# Altium footprint library PcbLib1.PcbLib: 24 footprints (part 1 of 2)
Each footprint in its own frame and in the unit in brackets; x right, y up, seen from the top. Pads: shape width x height; smd on the part's side, far side on the other; paste and mask are expansions set on the pad; w line width, h text height; cw(c..) or ccw(c..) is an arc to the next point about the centre after c.
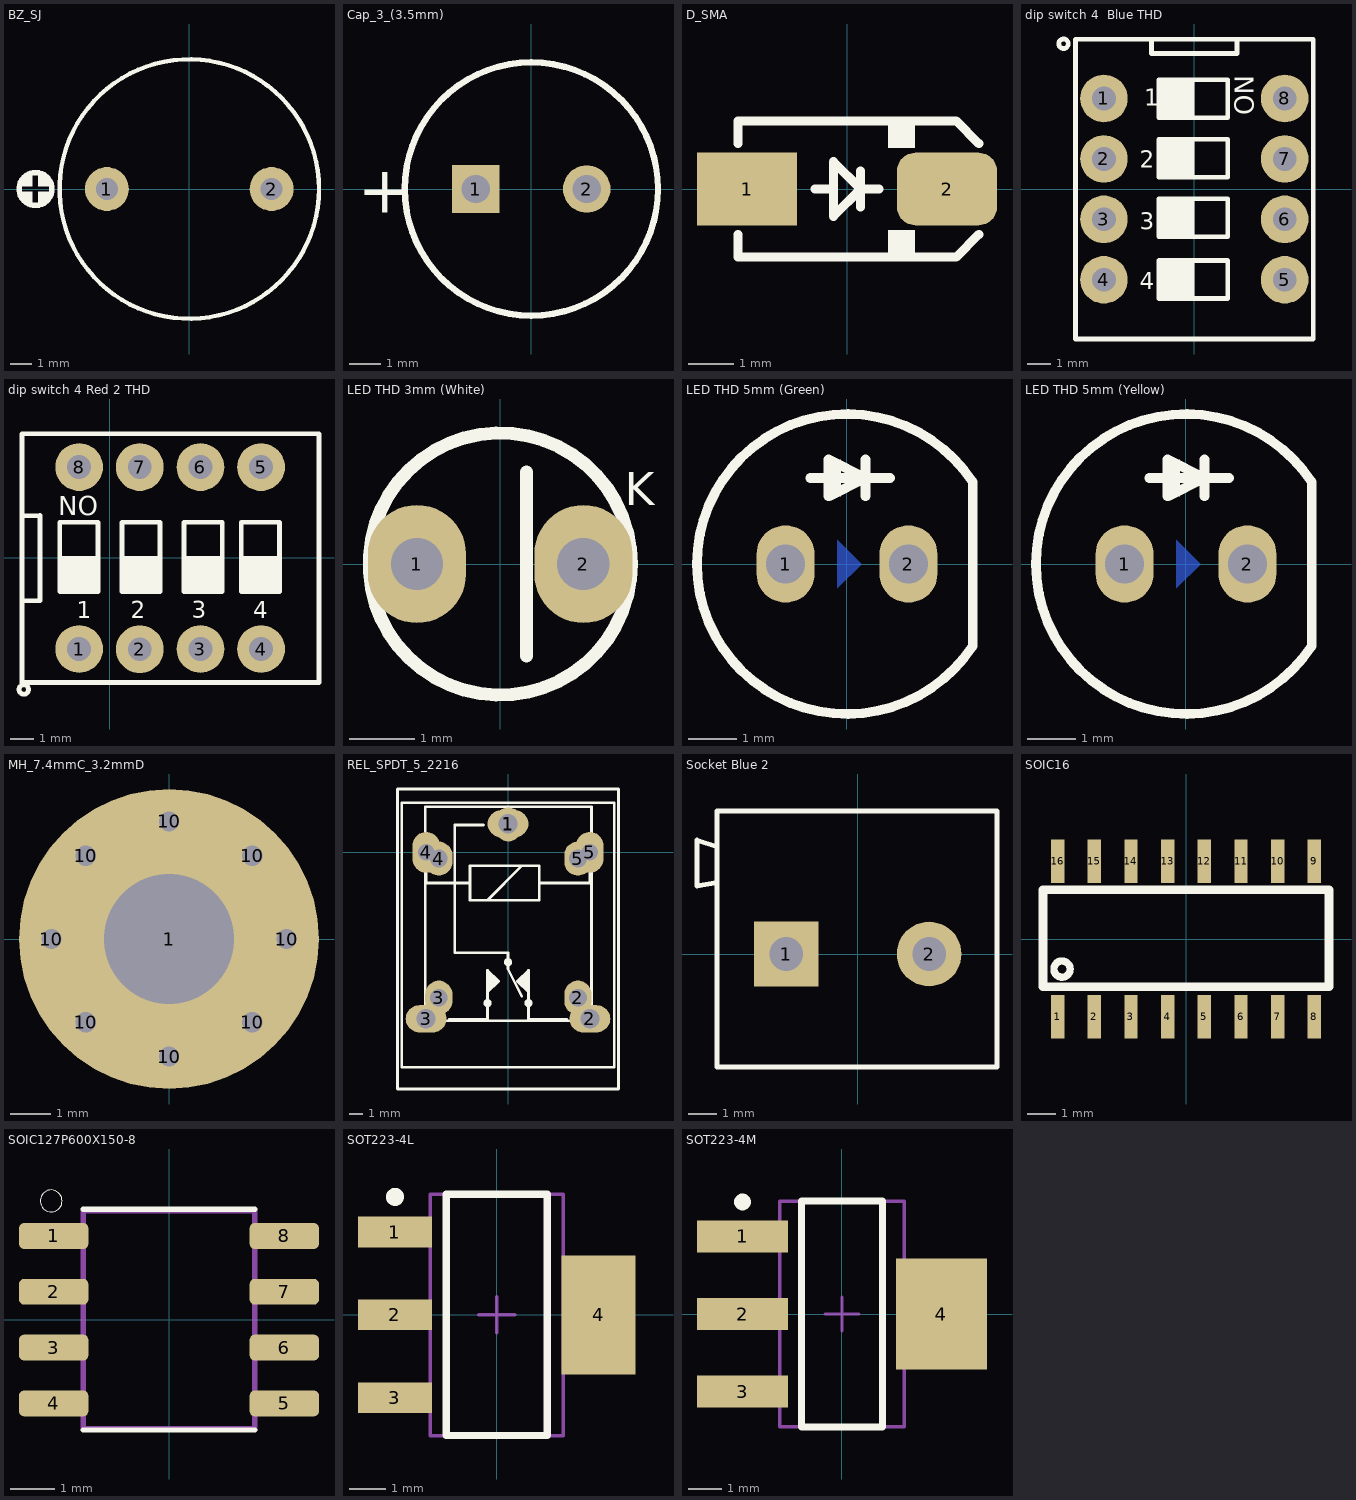
[diagram p0: the footprints below, top view; thin cyan lines are the x and y axes]

## BZ_SJ [mil] "Buzzer From Old SJ Library"
pads (2):
  round 80 hole 40: 1(-150,0) 2(150,0)
Top Overlay:
  circle w10: c-280,0 r30
  circle w7.87: c0,0 r236.22
  rectangle: -305,5 -285,24.84
  rectangle: -275,5 -255,24.84
  rectangle: -275,-25 -255,-5
  rectangle: -305,-25 -285,-5
3D body "SW3dPS-WST-1203UX.STEP": height 379.92, standoff -177.17, extent -372.21,-236.22 236.22,236.22

## Cap_3_(3.5mm) [mm] "Capacitor, Electrolytic, Radial; Body 8 x 5 mm (Dia.xH typ); Pin Spacing 3.5 mm (typ) (www.smartw.ir)"
height 6
pads (2):
  rect 1.5x1.51 hole 0.9: 1(-1.75,0)
  round 1.5 hole 0.9: 2(1.75,0)
Top Overlay:
  circle w0.2: c0,0 r4
  text "+" at -5.475,-0.75 h1.5
3D body "User Library-Cap-EL(8x11-3_5).STEP": height 11, standoff -3.3, extent -4,-3.991 4.002,3.991

## D_SMA [mm] "SMA Molded Diode, 2-Leads, Body 4.3x2.7mm, SOD-128 (www.Smartw.ir)"
height 2.4
pads (2):
  rect 2.2x1.6 smd: 1(-2.2,0)
  rrect50% 2.2x1.6 smd: 2(2.2,0)
Top Overlay:
  rectangle: 0.9,-1.5 1.5,-0.9
  rectangle: 0.9,0.9 1.5,1.5
  lines w0.2: -2.4,-1 -2.4,-1.5 2.4,-1.5 2.9,-1 ; -2.4,1 -2.4,1.5 2.4,1.5 2.9,1 ; -0.7,0 -0.3,0 ; 0.3,-0.4 0.3,0.4 ; 0.7,0 0.3,0 ; 0.3,0 -0.3,0.6 -0.3,-0.6 0.3,0
3D body "User Library-DIOM5528X26.step": height 2.6, standoff 0.03, extent -2.75,-1.4 2.75,1.4

## dip switch 4  Blue THD [mm] "SWITCH DIP 4POS, THD, 2.54mm, YL04 (www.smartw.ir)"
height 6.5
pads (8):
  round 2 / inner round 1.4 / far side round 2 hole 1 mask+0.1: 1(-3.8,3.81) 2(-3.8,1.27) 3(-3.8,-1.27) 4(-3.8,-3.81) 5(3.8,-3.81) 6(3.8,-1.27) 7(3.8,1.27) 8(3.8,3.81)
Top Overlay:
  circle w0.2: c-5.5,6.11 r0.2
  rectangle: -1.5,-4.6 0,-3
  rectangle: -1.5,-2 0,-0.4
  rectangle: -1.5,0.5 0,2.1
  rectangle: -1.5,3 0,4.6
  lines w0.2: -1.8,6.3 -1.8,5.7 1.79,5.7 1.79,6.3 ; -5,-6.3 5,-6.3 5,6.3 -5,6.3 -5,-6.3 ; -1.5,-4.6 1.4,-4.6 1.4,-3 -1.5,-3 -1.5,-4.6 ; -1.5,-2 1.4,-2 1.4,-0.4 -1.5,-0.4 -1.5,-2 ; -1.5,0.5 1.4,0.5 1.4,2.1 -1.5,2.1 -1.5,0.5 ; -1.5,3 -1.5,4.6 1.4,4.6 1.4,3 -1.5,3
  text "4" at -2.3,-4.2 h0.7
  text "3" at -2.3,-1.7 h0.7
  text "2" at -2.3,0.9 h0.7
  text "1" at -2.1,3.5 h0.7
  text "ON" at 2.5,3.1 h0.8
3D body "User Library-DIP SWITCH 4 POS CTS 206.step": height 8.14, standoff -3.5, extent -4.89,-6.17 4.89,6.17

## dip switch 4 Red 2 THD [mm] "(www.smartw.ir)"
height 6.5
pads (8):
  round 2 / inner round 1.4 / far side round 2 hole 1: 1(-1.283,-3.813) 2(1.257,-3.823) 3(3.797,-3.813) 4(6.337,-3.813) 5(6.337,3.807) 6(3.797,3.807) 7(1.257,3.807) 8(-1.283,3.807)
Top Overlay:
  circle w0.2: c-3.603,-5.508 r0.2
  region: 7.107,-1.408 7.107,0.092 5.507,0.092 5.507,-1.408
  region: 4.707,-1.408 4.707,0.092 3.107,0.092 3.107,-1.408
  region: 2.107,-1.408 2.107,0.092 0.507,0.092 0.507,-1.408
  region: -0.493,-1.408 -0.493,0.092 -2.093,0.092 -2.093,-1.408
  lines w0.2: -3.637,-1.781 -2.923,-1.79 ; -3.637,1.775 -2.923,1.766 ; -2.923,-1.781 -2.923,1.775 ; -3.683,-5.215 8.763,-5.215 8.763,5.204 -3.683,5.204 -3.683,-5.215 ; -2.093,-1.408 -2.093,1.492 -0.493,1.492 -0.493,-1.408 -2.093,-1.408 ; 0.507,-1.408 0.507,1.492 2.107,1.492 2.107,-1.408 0.507,-1.408 ; 3.107,-1.408 3.107,1.492 4.707,1.492 4.707,-1.408 3.107,-1.408 ; 5.507,-1.408 5.507,1.492 7.107,1.492 7.107,-1.408 5.507,-1.408
  text "4" at 6.001,-2.518 h0.7
  text "3" at 3.44,-2.518 h0.7
  text "2" at 0.88,-2.518 h0.7
  text "1" at -1.384,-2.518 h0.7
  text "ON" at -0.493,2.592 h0.8
3D body "User Library-DIP SW 4P TH.step": height 3.8, standoff -8.5, extent -3.67,-5.017 8.75,4.763

## LED THD 3mm (White) [mm] "(www.Smartw.ir)"
pads (2):
  oval 1.5x1.8 hole 0.8: 1(-1.27,0) 2(1.27,0)
Top Overlay:
  circle w0.2: c0,0 r2
  lines w0.2: 0.4,-1.4 0.4,1.4
  text "K" at 1.9,0.9 h0.51
3D body "CircuitWorks-LED DIP 3MM.step": height 6.5, standoff -2, extent -1.895,-1.9 1.6,1.9

## LED THD 5mm (Green) [mm] "(www.Smartw.ir)"
pads (2):
  oval 1.2x1.6 hole 0.8: 1(-1.27,0) 2(1.27,0)
Bottom Layer:
  region: -0.2,0.5 -0.2,-0.5 0.3,0
Top Overlay:
  rectangle: -0.381,1.397 -0.127,2.159
  lines w0.2: -0.762,1.778 0.889,1.778 ; 0.381,1.397 0.381,2.159 ; 2.6,-1.7 2.6,1.7 ; 2.6,-1.688 cw(c0,0) 2.6,1.688 ; -0.381,1.397 0.381,1.778 -0.381,2.159 -0.381,1.397
3D body "LED-D5G.step": height 9.14, standoff -6.3, extent -3,-3 2.5,3

## LED THD 5mm (Yellow) [mm] "(www.Smartw.ir)"
pads (2):
  oval 1.2x1.6 hole 0.8: 1(-1.27,0) 2(1.27,0)
Bottom Layer:
  region: -0.2,0.5 -0.2,-0.5 0.3,0
Top Overlay:
  rectangle: -0.381,1.397 -0.127,2.159
  lines w0.2: -0.762,1.778 0.889,1.778 ; 0.381,1.397 0.381,2.159 ; 2.6,-1.7 2.6,1.7 ; 2.6,-1.688 cw(c0,0) 2.6,1.688 ; -0.381,1.397 0.381,1.778 -0.381,2.159 -0.381,1.397
3D body "LED-D5Y.step": height 9.14, standoff -6.3, extent -3,-3 2.5,3

## MH_7.4mmC_3.2mmD [mm]
pads (9):
  round 7.4 hole 3.2: 1(0,0)
  round 0.8 hole 0.5: 10(-2.9,0) 10(-2.051,-2.051) 10(-2.051,2.051) 10(0,-2.9) 10(0,2.9) 10(2.051,-2.051) 10(2.051,2.051) 10(2.9,0)

## PCBComponent_1 [mm]

## REL_SPDT_5_2216 [mm] "RELAY SPDT, OMRON G5LE SERIES, 22X16mm and 18.8x15.4mm, HJR-3FF, RAS-1215 (www.Smartw.ir)"
pads (10):
  oval 3x2 hole 1.4: 1(0,2.1) 2(6,-12.2) 3(-6,-12.2)
  oval 2x2.5 hole 1.3: 1(0.025,2.05) 2(5.125,-10.65) 3(-5.075,-10.65) 4(-5.075,-0.45) 5(5.125,-0.45)
  oval 2x3 hole 1.2: 4(-6,0) 5(6,0)
Top Overlay:
  circle w0.2: c0,-8.05 r0.2
  circle w0.2: c1.5,-11.05 r0.2
  circle w0.2: c-1.5,-11.05 r0.2
  region: 1.5,-8.65 1.5,-10.25 0.7,-9.45
  region: -1.5,-8.65 -1.5,-10.25 -0.7,-9.45
  lines w0.2: -6,-1.3 -6,-2.243 -2.794,-2.242 ; -4.3,-12.25 -1.5,-12.25 -1.5,-8.65 -0.7,-9.45 -1.5,-10.25 ; -1.8,2.012 -3.9,2.012 -3.9,-7.35 0,-7.35 0,-8.55 1,-10.55 ; -1.524,-3.513 1.016,-0.973 ; 1.5,-10.25 0.7,-9.45 1.5,-8.65 1.5,-12.25 4.3,-12.25 ; 6,-1.3 6,-2.243 2.286,-2.243 ; 2.286,-2.243 2.286,-3.512 -2.794,-3.513 -2.794,-0.973 2.286,-0.973 2.286,-2.243 ; -8.1,-17.35 8.1,-17.35 8.1,4.65 -8.1,4.65 -8.1,-17.35 ; -7.8,-15.75 7.8,-15.75 7.8,3.65 -7.8,3.65 -7.8,-15.75 ; -6.075,-12.35 -6.075,3.35 6.125,3.35 6.125,-12.35 -6.075,-12.35
3D body "User Library-RELE.step": height 15.5, standoff -2.5, extent -7.95,-15.75 7.95,3.75

## Socket Blue 2 [mm] "(www.Smartw.ir)"
pads (2):
  rect 2.3x2.3 hole 1.2: 1(-2.54,0)
  round 2.3 hole 1.2: 2(2.54,0)
Top Overlay:
  lines w0.178: -5.004,2.54 -5.715,2.421 -5.715,4.047 -5.004,3.81 ; -5.004,-4.013 -5.004,5.08 4.953,5.08 4.953,-4.013 -5.004,-4.013
3D body "Socket Blue_2Pin.STEP": height 12.52, standoff -6.68, extent -5.777,-3.988 4.965,5.08

## SOIC16 [mm] "(www.Smartw.ir)"
pads (16):
  rect 0.46x1.5 smd: 1(-4.445,-2.695) 2(-3.175,-2.695) 3(-1.905,-2.695) 4(-0.635,-2.695) 5(0.635,-2.695) 6(1.905,-2.695) 7(3.175,-2.695) 8(4.445,-2.695) 9(4.445,2.695) 10(3.175,2.695) 11(1.905,2.695) 12(0.635,2.695) 13(-0.635,2.695) 14(-1.905,2.695) 15(-3.175,2.695) 16(-4.445,2.695)
Top Overlay:
  circle w0.254: c-4.293,-1.041 r0.281
  lines w0.3: -4.953,-1.651 -4.953,1.702 4.953,1.702 4.953,-1.651 -1.753,-1.651 -4.953,-1.651
3D body "User Library-so16.STEP": height 1.7, standoff 0, extent -5.095,-3.028 5.105,2.972

## SOIC127P600X150-8 [mm]
pads (8):
  rrect40% 1.58x0.589 smd: 1(-2.625,1.905) 2(-2.625,0.635) 3(-2.625,-0.635) 4(-2.625,-1.905) 5(2.625,-1.905) 6(2.625,-0.635) 7(2.625,0.635) 8(2.625,1.905)
Top Overlay:
  circle w0: c-2.682,2.704 r0.25
  lines w0.12: -1.95,-2.514 1.95,-2.514 ; -1.95,2.514 1.95,2.514
Mechanical 13:
  lines w0.12: -1.95,-2.475 -1.95,2.475 1.95,2.475 1.95,-2.475 -1.95,-2.475
3D body "SOIC 8.step": height 1.75, standoff 0, extent -3.057,-2.55 3.057,2.45

## SOT223-4L [mm] "SOT223, 4-Leads, Body 6.7x7.3mm (max), Pitch 2.30mm, IPC High Density"
height 1.8
pads (4):
  rect 2.05x0.85 smd: 1(-2.825,2.3) 2(-2.825,0) 3(-2.825,-2.3)
  rect 2.05x3.3 smd: 4(2.825,0)
Top Overlay:
  circle w0.25: c-2.825,3.275 r0.125
  lines w0.2: -1.4,-3.35 -1.4,3.35 1.4,3.35 1.4,-3.35 -1.4,-3.35
Mechanical 13:
  lines w0.1: -1.85,-3.35 -1.85,3.35 1.85,3.35 1.85,-3.35 -1.85,-3.35
Mechanical 15:
  lines w0.1: -0.5,0 0.5,0 ; 0,-0.5 0,0.5
3D body "SOT-223.STEP": height 1.68, standoff 0, extent -3.48,-3.25 3.48,3.25

## SOT223-4M [mm] "SOT223, 4-Leads, Body 6.7x7.3mm (max), Pitch 2.30mm, IPC Low Density"
height 1.8
pads (4):
  rect 2.7x0.95 smd: 1(-2.95,2.3) 2(-2.95,0) 3(-2.95,-2.3)
  rect 2.7x3.3 smd: 4(2.95,0)
Top Overlay:
  circle w0.25: c-2.95,3.325 r0.125
  lines w0.2: -1.2,-3.35 -1.2,3.35 1.2,3.35 1.2,-3.35 -1.2,-3.35
Mechanical 13:
  lines w0.1: -1.85,-3.35 -1.85,3.35 1.85,3.35 1.85,-3.35 -1.85,-3.35
Mechanical 15:
  lines w0.1: -0.5,0 0.5,0 ; 0,-0.5 0,0.5
3D body "SOT-223.STEP": height 1.68, standoff 0, extent -3.48,-3.25 3.48,3.25